# Altium schematic symbol library MAX8867EUK25+T.SchLib: 1 symbol
Pins are listed as number, name and electrical type; pins without a type are passive.

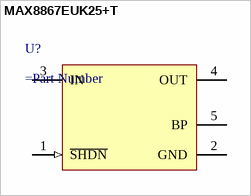
[diagram p0: symbol MAX8867EUK25+T]

## MAX8867EUK25+T
designator U?
=Description; ComponentLink1Description: Datasheet; ComponentLink1URL: https://www.mouser.ca/datasheet/2/445/61304011121-1718151.pdf
pins: 1 ~{SHDN} (in), 2 GND (power), 3 IN (power), 4 OUT (power), 5 BP (power)